# EAGLE library part BD6221F (library lib_paul)
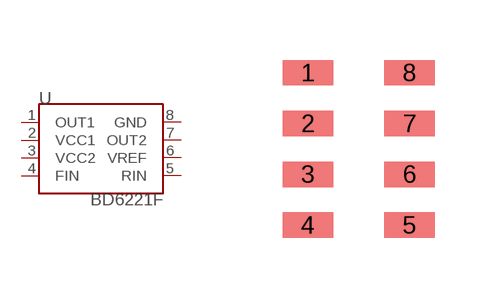
[diagram p17: symbol with the pads of SO8; footprint SO8]

Designator prefix -

## BD6221F  [SO8]
1  OUT1
2  VCC1
3  VCC2
4  FIN
5  RIN
6  VREF
7  OUT2
8  GND

## Footprint SO8 (pad centres in mm)
smd 1.27 x 0.635: 1 -1.27,1.27; 2 -1.27,0; 3 -1.27,-1.27; 4 -1.27,-2.54; 5 1.27,-2.54; 6 1.27,-1.27; 7 1.27,0; 8 1.27,1.27